# Altium footprint library PCB - CAPACITOR - ELECTROLYTIC - C4AQQBU4330A1YJ.PCBLIB: 1 footprints
Each footprint in its own frame and in the unit in brackets; x right, y up, seen from the top. Pads: shape width x height; smd on the part's side, far side on the other; paste and mask are expansions set on the pad; w line width, h text height; cw(c..) or ccw(c..) is an arc to the next point about the centre after c.
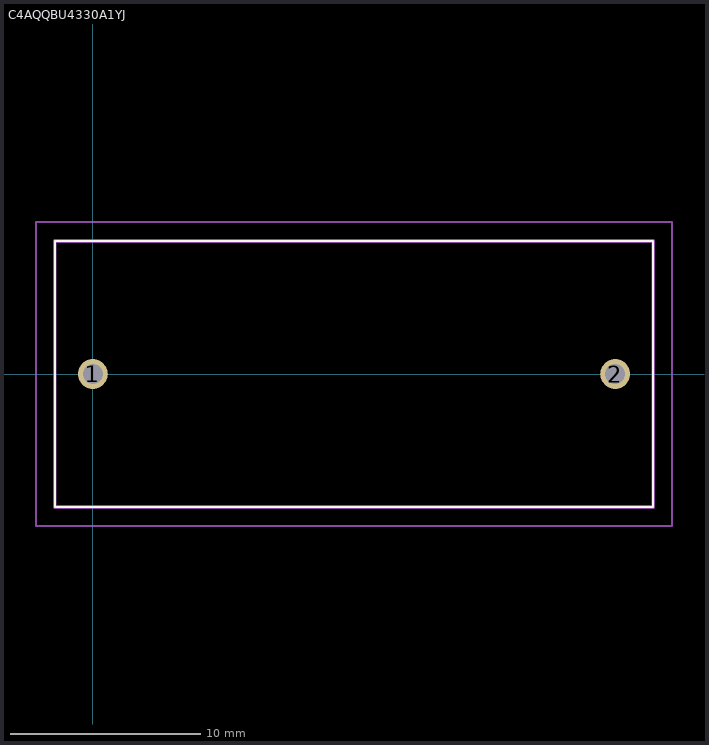
[diagram p0: the footprint, top view; thin cyan lines are the x and y axes]

## C4AQQBU4330A1YJ [mm]
height 18.1
pads (2):
  round 1.575 hole 1.05: 1(0,0) 2(27.5,0)
Top Overlay:
  lines w0.1: -2,-7 29.5,-7 29.5,7 -2,7 -2,-7
Top Assembly:
  lines w0.2: -2,-7 29.5,-7 29.5,7 -2,7 -2,-7
Top Courtyard:
  lines w0.1: -3,-8 30.5,-8 30.5,8 -3,8 -3,-8
Top Designator:
  text ".Designator" at -2.667,10.287 h1
Top Value (Mech13):
  text ".Comment" at -2.794,9.017 h1
3D body "C4AQQBU4330A1YJ.stp": height 28.2, standoff -5, extent -2,-7 29.5,7